# EAGLE library part AMP_HEADER (library Robot_Arm)
PIN HEADER
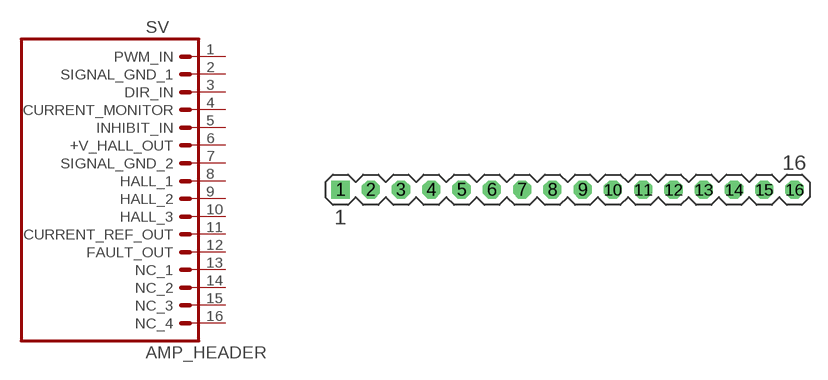
[diagram p1: symbol with the pads of AMP_HEADER; footprint AMP_HEADER]

Designator prefix SV

## AMP_HEADER (OC_FARNELL: unknown; OC_NEWARK: unknown)  [AMP_HEADER]
1  PWM_IN  pas
2  SIGNAL_GND_1  pas
3  DIR_IN  pas
4  CURRENT_MONITOR  pas
5  INHIBIT_IN  pas
6  +V_HALL_OUT  pas
7  SIGNAL_GND_2  pas
8  HALL_1  pas
9  HALL_2  pas
10  HALL_3  pas
11  CURRENT_REF_OUT  pas
12  FAULT_OUT  pas
13  NC_1  pas
14  NC_2  pas
15  NC_3  pas
16  NC_4  pas

## Footprint AMP_HEADER (pad centres in mm)
PIN HEADER
drill 1.016 square: 1 -20.32,1.27
drill 1.016 octagon: 2 -17.78,1.27; 3 -15.24,1.27; 4 -12.7,1.27; 5 -10.16,1.27; 6 -7.62,1.27; 7 -5.08,1.27; 8 -2.54,1.27; 9 0,1.27; 10 2.54,1.27; 11 5.08,1.27; 12 7.62,1.27; 13 10.16,1.27; 14 12.7,1.27; 15 15.24,1.27; 16 17.78,1.27